# EAGLE library part 6861XX183422_686115183422 (library WR-FPC)
WR-FPC 1.00 mm SMT ZIF Horizontal Top Contact Low Profile KIND PROPERTIES Pitch 1 mm MATERIAL PROPERTIES Insulator Material LCP Contact Material Phosphor Bronze Contact Plating 120 (µ") Tin over 30 (µ") Nickel Contact Type Stamped Solder Tabs：Brass <https://www.we-online.com/catalog/media/o83962v209%20WR-FPC_6861xx183422_4C.jpg> Details see: https://www.we-online.com/catalog/en/FPC_1_00_SMT_ZIF_HORIZONTAL_TOP_CONTACT_LOW_PROFILE_6861XX183422/ Updated by Ella Wu 2020-08-26 2020(C) Wurth Elektronik
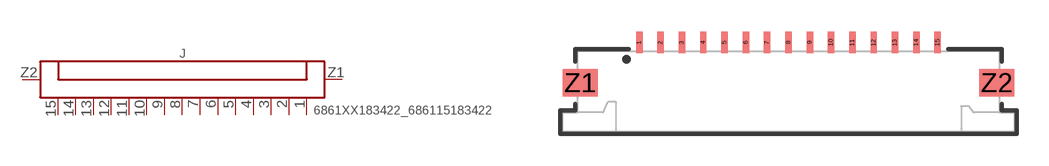
[diagram p88: symbol with the pads of 686115183422; footprint 686115183422]

Designator prefix J

## 6861XX183422_686115183422 (CONTACT-RESISTANCE: 30Ohm; DATASHEET-URL: https://www.we-online.com/catalog/datasheet/686115183422.pdf; IR: 0.8A; L: 21.2mm; MATE-WITH: WR-FFC 1.00 mm Flat Flexible Cable Type 1 (Contacts on same side)/ Type 2 (Contacts opposite); PACKAGING: Tape and Reel; PART-NUMBER: 686115183422; PINS: 15; PITCH: 1mm; TYPE: Horizontal; VALUE: 686115183422; WORKING-VOLTAGE: 50V(AC))  [686115183422]
1  1  pas
2  2  pas
3  3  pas
4  4  pas
5  5  pas
6  6  pas
7  7  pas
8  8  pas
9  9  pas
10  10  pas
11  11  pas
12  12  pas
13  13  pas
14  14  pas
15  15  pas
Z1  Z1  pas
Z2  Z2  pas

## Footprint 686115183422 (pad centres in mm)
WR-FPC 1.00 mm SMT ZIF Horizontal Top Contact Low Profile,15Pins
smd 0.3 x 1: 1 -7,2.3; 2 -6,2.3; 3 -5,2.3; 4 -4,2.3; 5 -3,2.3; 6 -2,2.3; 7 -1,2.3; 8 0,2.3; 9 1,2.3; 10 2,2.3; 11 3,2.3; 12 4,2.3; 13 5,2.3; 14 6,2.3; 15 7,2.3
smd 1.65 x 1.3: Z1 -9.775,0.4; Z2 9.775,0.4